# Altium schematic symbol library cheese_cave.SchLib: 31 symbols
Pins are listed as number, name and electrical type; pins without a type are passive.

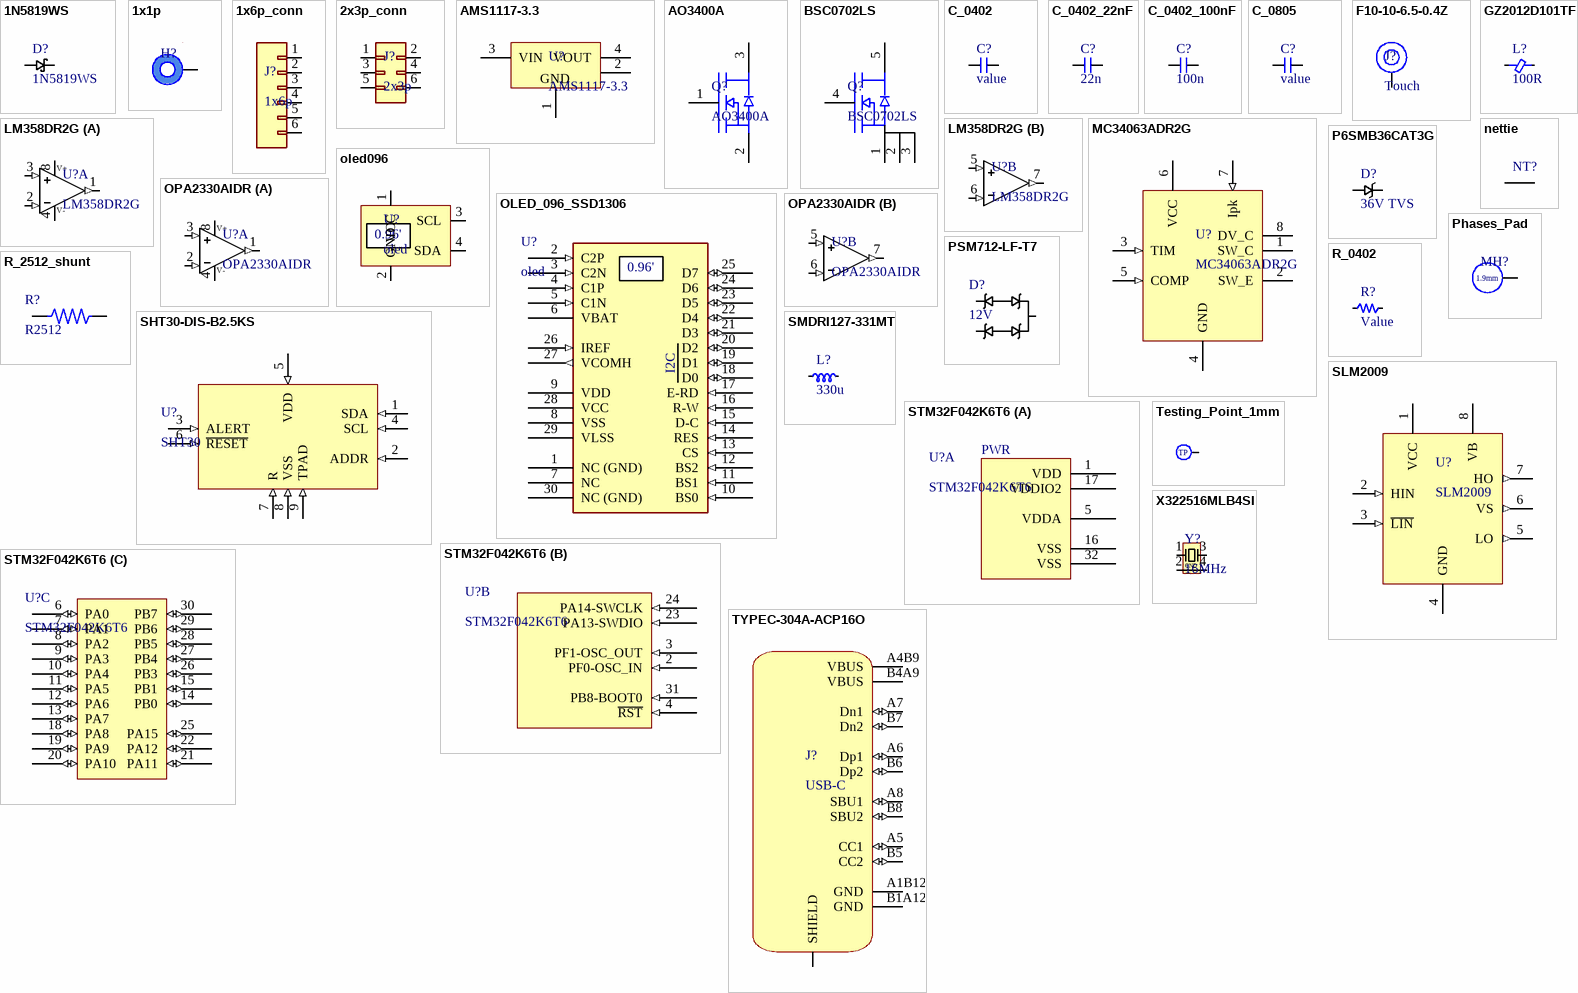
[diagram p0: symbols 1N5819WS to X322516MLB4SI]

## 1N5819WS
designator D?
40V 600mV@1A 1A SOD-323  Schottky; LCSC: C191023
footprint SOD323 (Molded Diode, 2-Leads, Body 2.50x1.30mm, IPC Medium Density)
pins: 1, 2

## 1x1p
designator H?, comment 1x1  (value not drawn)
0.85mm hole; LCSC: C124390
footprint 1x1p
pins: 1

## 1x6p_conn
designator J?, comment 1x6p
1x6 male pin header; LCSC: C124390
footprint 1X6P_CONN
pins: 1, 2, 3, 4, 5, 6

## 2x3p_conn
designator J?, comment 2x3p
2x3 male pin header; LCSC: C124390
footprint 2x3p_conn
pins: 1, 2, 3, 4, 5, 6

## AMS1117-3.3
designator U?
72dB@(120Hz) 1A 1.3V@(800mA) Fixed 3.3V~3.3V Positive 1 SOT-223; LCSC: C6186
footprint SOT223 (SOT223, 4-Leads, Body 6.50x7.00mm (avg), Pitch 2.30mm, IPC Medium Density)
pins: 1 GND, 2 VOUT, 3 VIN, 4 VOUT

## AO3400A
designator Q?
30V 5.7A 26.5mΩ@10V,5.7A 1.4W N Channel SOT-23-3L  MOSFET; LCSC: C501503
footprint SOT23_alphaomega (SOT23, 3-Leads, Body 2.95x2.80mm, Pitch 0.95mm, IPC Medium Density)
pins: 1, 2, 3

## BSC0702LS
designator Q?
60V, 134A, 2.7mΩ N-FET; LCSC: C501503
footprint PG-TDSON-8 (Power Mosfet footprint)
pins: 1, 2, 3, 4, 5

## C_0402
designator C?, comment value
0402 cap
footprint C0402 (Chip Capacitor, 2-Leads, Body 1.00x0.50mm, IPC Medium Density)
pins: 1, 2

## C_0402_22nF
designator C?, comment 22n
0402 22nF 50V; LCSC: C1532
footprint C0402 (Chip Capacitor, 2-Leads, Body 1.00x0.50mm, IPC Medium Density)
pins: 1, 2

## C_0402_100nF
designator C?, comment 100n
0402 100nF 50V; LCSC: C307331
footprint C0402 (Chip Capacitor, 2-Leads, Body 1.00x0.50mm, IPC Medium Density)
pins: 1, 2

## C_0805
designator C?, comment value
0805 cap
footprint C0805 (Chip Capacitor, 2-Leads, Body 2.00x1.25mm, IPC Medium Density)
pins: 1, 2

## F10-10-6.5-0.4Z
designator J?, comment Touch  (no BOM)
footprint F10-10-6.5-0.4 Z (Touch sensing spring)
pins: 1

## GZ2012D101TF
designator L?, comment 100R
±25% 100Ω@100MHz 0805  150mR Ferrite Beads; LCSC: C10152
footprint L0805 (Chip Inductor, 2-Leads, Body 2.10x1.25mm, IPC Medium Density)
pins: 1, 2

## LM358DR2G
designator U?
45nA 2 1MHz SOP-8 Operational Amplifier; LCSC: C128746
footprint SOIC8 (SOIC, 8-Leads, Body 4.91x3.90mm, Pitch 1.27mm, IPC Medium Density)
part A pins: 1 outA (out), 2 INA- (in), 3 INA+ (in), 4 V- (power), 8 V+ (power)
part B pins: 5 INB+ (in), 6 INB- (in), 7 outB (out)

## MC34063ADR2G
designator U?
Buck-boost type 1 1.25V~40V 3V~40V 1.5A 100kHz; LCSC: C32078
footprint SOIC8 (SOIC, 8-Leads, Body 4.91x3.90mm, Pitch 1.27mm, IPC Medium Density)
pins: 1 SW_C (power), 2 SW_E (power), 3 TIM (in), 4 GND (power), 5 COMP (in), 6 VCC (power), 7 Ipk (in), 8 DV_C (power)

## nettie
designator NT?  (value not drawn)  (net tie, no BOM)
0.2mm net tie
footprint nettie
pins: 1, 2

## oled096
designator U?, comment oled
0.96 inch i2c oled
footprint oled096
pins: 1 VCC, 2 GND, 3 SCL, 4 SDA
text: 0.96'

## OLED_096_SSD1306
designator U?, comment oled
0.96 inch frameless SSD1306 oled
footprint OLED_096_SSD1306 (0.96 inch OLED screen with SSD1306 controller without PCB.)
pins: 1 NC (GND), 2 C2P (in), 3 C2N (in), 4 C1P (in), 5 C1N (in), 6 VBAT (power), 7 NC, 8 VSS (power), 9 VDD (power), 10 BS0 (in), 11 BS1 (in), 12 BS2 (in), 13 CS (in), 14 RES (in), 15 D-C (in), 16 R-W (in), 17 E-RD (in), 18 D0 (io), 19 D1 (io), 20 D2 (io), 21 D3 (io), 22 D4 (io), 23 D5 (io), 24 D6 (io), 25 D7 (io), 26 IREF (in), 27 VCOMH (out), 28 VCC (power), 29 VLSS (power), 30 NC (GND)
text: 0.96'; I2C

## OPA2330AIDR
designator U?
Precision opamp; LCSC: C128746
footprint SOIC8 (SOIC, 8-Leads, Body 4.91x3.90mm, Pitch 1.27mm, IPC Medium Density)
part A pins: 1 outA (out), 2 INA- (in), 3 INA+ (in), 4 V- (power), 8 V+ (power)
part B pins: 5 INB+ (in), 6 INB- (in), 7 outB (out)

## P6SMB36CAT3G
designator D?, comment 36V TVS
LCSC: C26862
footprint P6SMB36CAT3G (Molded Diode, 2-Leads, Body 5.40x3.63mm, IPC Medium Density)
pins: 1, 2

## Phases_Pad
designator MH?  (no BOM)
footprint 1.9mm_Phases_Pads
pins: 1
text: 1.9mm

## PSM712-LF-T7
designator D?, comment 12V
19V 13.3V 12V SOT-23(TO-236)  TVS; LCSC: C191023
footprint SOT23_protek (SOT23, 3-Leads, Body 2.92x2.30mm, Pitch 0.95mm, IPC Medium Density)
pins: 1, 2, 3

## R_0402
designator R?, comment Value
0402 62.5mW
footprint R0402 (Chip Resistor, 2-Leads, Body 1.00x0.50mm, IPC Medium Density)
pins: 1, 2

## R_2512_shunt
designator R?, comment R2512
LCSC: C326570
footprint R2512 (Chip Resistor, 2-Leads, Body 6.35x3.18mm, IPC Medium Density)
pins: 1, 2

## SHT30-DIS-B2.5KS
designator U?, comment SHT30
Temperature and Humidity Sensor
footprint SHT30-DIS-B2.5KS (SON, 8-Leads, Body 2.50x2.50mm, Pitch 0.50mm, Thermal Pad 1.80x1.09mm, IPC Medium Density)
pins: 1 SDA (in), 2 ADDR (in), 3 ALERT (in), 4 SCL (in), 5 VDD (in), 6 ~{RESET} (in), 7 R (in), 8 VSS (in), 9 TPAD (in)

## SLM2009
designator U?
200V 1A/1.5A 10 V - 18 V; LCSC: C3001941
footprint SOP8 (SOP, 8-Leads, Body 4.90x3.90mm, Pitch 1.27mm, IPC Medium Density)
pins: 1 VCC (power), 2 HIN (in), 3 ~{LIN} (in), 4 GND (power), 5 LO (out), 6 VS (out), 7 HO (out), 8 VB (power)

## SMDRI127-331MT
designator L?, comment 330u
950mA 330uH ±20% 640mΩ SMD Power Inductor; LCSC: C10152
footprint SMD_Inductor (Precision Wire Wound Inductor, 2-Leads, Body 12.15x12.15mm, IPC Medium Density)
pins: 1, 2

## STM32F042K6T6
designator U?
RISC Microcontroller, 32-Bit, FLASH, CORTEX-M0 CPU, 48MHz, CMOS, PQFP32; Manufacturer: STMicroelectronics; Package Body Material: Plastic; Clock Frequency: 32MHz; Number of I/O Lines: 26; Speed: 48RPM; Max Supply Voltage: 3.6V; Min Supply Voltage: 2V; Nominal Supply Voltage: 3.3V; Package Equivalence Code: QFP32,.35SQ,32; Power Supplies: 2.5/3.3V; Max Supply Current: 23.4mA; Qualification Status: Not Qualified; Supplier: Mouser; Supplier Part Number: 511-STM32F042K6T6; Manufacturer Part Number: STM32F042K6T6; RoHS: Yes; Category: Microcontrollers; Stock: 3030; Pricing: 1=3.82, 10=3.43, 50=3.43, 100=2.81, 1000=2.02, 10000=1.98 (USD); Case/Package: LQFP; Pins: 32; Package Shape: Square; Min Operating Temperature: -40°C; Max Operating Temperature: 85°C; JESD-30 Code: S-PQFP-G32; Package Style: FLATPACK, LOW PROFILEMeter; Surface Mount: Yes; Technology: CMOS; Terminal Form: Gull Wing; Terminal Position: QUAD; Length: 7mm; Width: 7mm; Height - Seated (Max): 1.6mm; Terminal Pitch: 0.8mm; Temperature Grade: INDUSTRIAL; Reach SVHC Compliant: Yes; RoHS Compliant: Yes; ComponentLink1URL: https://datasheet.ciiva.com:443/pdfs/VipMasterIC/IC/SGST/SGST-S-A0002862944/SGST-S-A0002862944-1.pdf?src-supplier=IHS+Markit; ComponentLink1Description: https://datasheet.ciiva.com:443/pdfs/VipMasterIC/IC/SGST/SGST-S-A0002862944/SGST-S-A0002862944-1.pdf?src-supplier=IHS+Markit; ComponentLink2URL: https://datasheet.ciiva.com/48492/dm00105814-48492533.pdf?src-supplier=Avnet; ComponentLink2Description: https://datasheet.ciiva.com/48492/dm00105814-48492533.pdf?src-supplier=Avnet
footprint LQFP32-ST (TQFP, 32-Leads, Body 7.00x7.00mm, Pitch 0.80mm, IPC Medium Density)
part A pins: 1 VDD (power), 5 VDDA (power), 16 VSS (power), 17 VDDIO2 (power), 32 VSS (power)
part B pins: 2 PF0-OSC_IN (in), 3 PF1-OSC_OUT (in), 4 ~{RST} (in), 23 PA13-SWDIO (in), 24 PA14-SWCLK (in), 31 PB8-BOOT0 (in)
part C pins: 6 PA0 (io), 7 PA1 (io), 8 PA2 (io), 9 PA3 (io), 10 PA4 (io), 11 PA5 (io), 12 PA6 (io), 13 PA7 (io), 14 PB0 (io), 15 PB1 (io), 18 PA8 (io), 19 PA9 (io), 20 PA10 (io), 21 PA11 (io), 22 PA12 (io), 25 PA15 (io), 26 PB3 (io), 27 PB4 (io), 28 PB5 (io), 29 PB6 (io), 30 PB7 (io)
part A text: PWR

## Testing_Point_1mm
designator TP?  (no BOM)
1mm testing point
footprint TestingPoint_1mm
pins: 1
text: TP

## TYPEC-304A-ACP16O
designator J?, comment USB-C
5A USB 3.1 1 260℃ Surface Mount 16 Female -45℃~+85℃ Type-C SMD USB; LCSC: C2909610
footprint USB-C (USB 2.0 type C female connector)
pins: A1B12 GND (power), A4B9 VBUS (power), A5 CC1 (io), A6 Dp1 (io), A7 Dn1 (io), A8 SBU1 (io), B1A12 GND (power), B4A9 VBUS (power), B5 CC2 (io), B6 Dp2 (io), B7 Dn2 (io), B8 SBU2 (io), M1 SHIELD

## X322516MLB4SI
designator Y?, comment 16MHz
16MHz SMD Crystal Resonator 9pF ±10ppm ±30ppm -40℃~+85℃ SMD3225-4P Crystals ROHS; LCSC: C13738
footprint SMD3225-4P (Crystal footprint)
pins: 1, 2, 3, 4
text: GND